# Altium footprint library SMD_корпуса.PcbLib: 14 footprints
Each footprint in its own frame and in the unit in brackets; x right, y up, seen from the top. Pads: shape width x height; smd on the part's side, far side on the other; paste and mask are expansions set on the pad; w line width, h text height; cw(c..) or ccw(c..) is an arc to the next point about the centre after c.
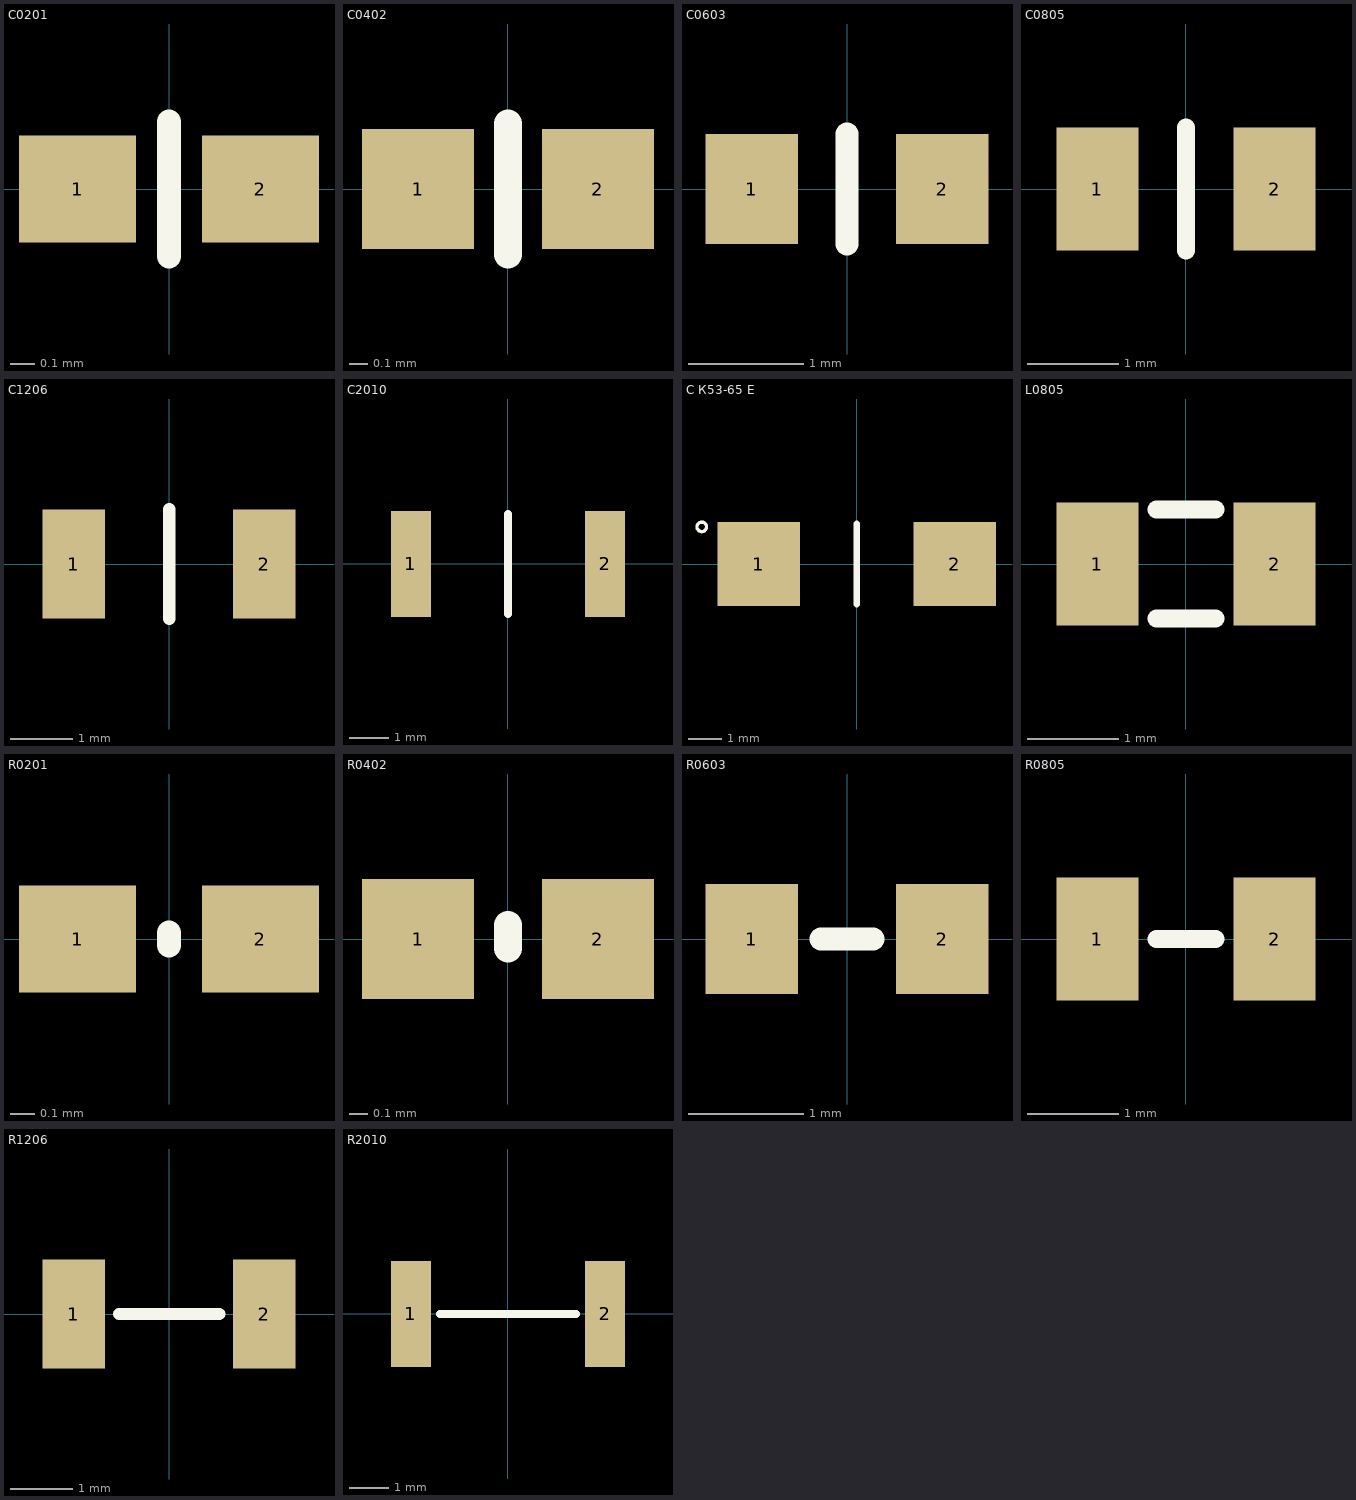
[diagram p0: the footprints below, top view; thin cyan lines are the x and y axes]

## C0201 [mm] "Chip Capacitor"
height 0.23
pads (2):
  rect 0.48x0.44 smd: 1(-0.375,0) 2(0.375,0)
Top Overlay:
  lines w0.1: 0,-0.275 0,0.275

## C0402 [mm] "Chip Capacitor"
height 0.35
pads (2):
  rect 0.6x0.64 smd: 1(-0.48,0) 2(0.48,0)
Top Overlay:
  lines w0.15: 0,-0.35 0,0.35

## C0603 [mm] "Chip Capacitor"
height 0.45
pads (2):
  rect 0.8x0.95 smd: 1(-0.825,0) 2(0.825,0)
Top Overlay:
  lines w0.2: 0,-0.475 0,0.475

## C0805 [mm] "Chip Capacitor"
height 0.4
pads (2):
  rect 0.9x1.35 smd: 1(-0.975,0) 2(0.975,0)
Top Overlay:
  lines w0.2: 0,-0.675 0,0.675

## C1206 [mm] "Chip Capacitor"
height 0.5
pads (2):
  rect 1x1.75 smd: 1(-1.525,0) 2(1.525,0)
Top Overlay:
  lines w0.2: 0,-0.875 0,0.875

## C2010 [mm] "Chip Capacitor"
height 0.6
pads (2):
  rect 1x2.65 smd: 1(-2.425,0) 2(2.425,0)
Top Overlay:
  lines w0.2: 0,-1.25 0,1.25

## C К53-65 E [mm] "Chip Capacitor, 7.3±0.3 4.3±0.3 4.1±0.3 1.3±0.3 2.4±0.1"
height 4
pads (2):
  rect 2.5x2.55 smd: 1(-2.975,0) 2(2.975,0)
Top Overlay:
  lines w0.1: -4.556,1.128 cw(c-4.7,1.125) -4.556,1.13
  lines w0.2: 0,-1.225 0,1.225

## L0805 [mm] "Chip L"
height 0.4
pads (2):
  rect 0.9x1.35 smd: 1(-0.975,0) 2(0.975,0)
Top Overlay:
  lines w0.2: -0.325,-0.6 0.325,-0.6 ; -0.325,0.6 0.325,0.6

## R0201 [mm] "Chip Resistor"
height 0.23
pads (2):
  rect 0.48x0.44 smd: 1(-0.375,0) 2(0.375,0)
Top Overlay:
  lines w0.1: 0,-0.025 0,0.025

## R0402 [mm] "Chip Resistor"
height 0.35
pads (2):
  rect 0.6x0.64 smd: 1(-0.48,0) 2(0.48,0)
Top Overlay:
  lines w0.15: 0,-0.05 0,0.075

## R0603 [mm] "Chip Resistor"
height 0.45
pads (2):
  rect 0.8x0.95 smd: 1(-0.825,0) 2(0.825,0)
Top Overlay:
  lines w0.2: -0.225,0 0.225,0

## R0805 [mm] "Chip Resistor"
height 0.4
pads (2):
  rect 0.9x1.35 smd: 1(-0.975,0) 2(0.975,0)
Top Overlay:
  lines w0.2: -0.325,0 0.325,0

## R1206 [mm] "Chip Resistor"
height 0.5
pads (2):
  rect 1x1.75 smd: 1(-1.525,0) 2(1.525,0)
Top Overlay:
  lines w0.2: -0.8,0 0.8,0

## R2010 [mm] "Chip Resistor"
height 0.6
pads (2):
  rect 1x2.65 smd: 1(-2.425,0) 2(2.425,0)
Top Overlay:
  lines w0.2: -1.7,0 1.7,0